# Altium footprint library IDC_100_2x3.PcbLib: 1 footprints
Each footprint in its own frame and in the unit in brackets; x right, y up, seen from the top. Pads: shape width x height; smd on the part's side, far side on the other; paste and mask are expansions set on the pad; w line width, h text height; cw(c..) or ccw(c..) is an arc to the next point about the centre after c.
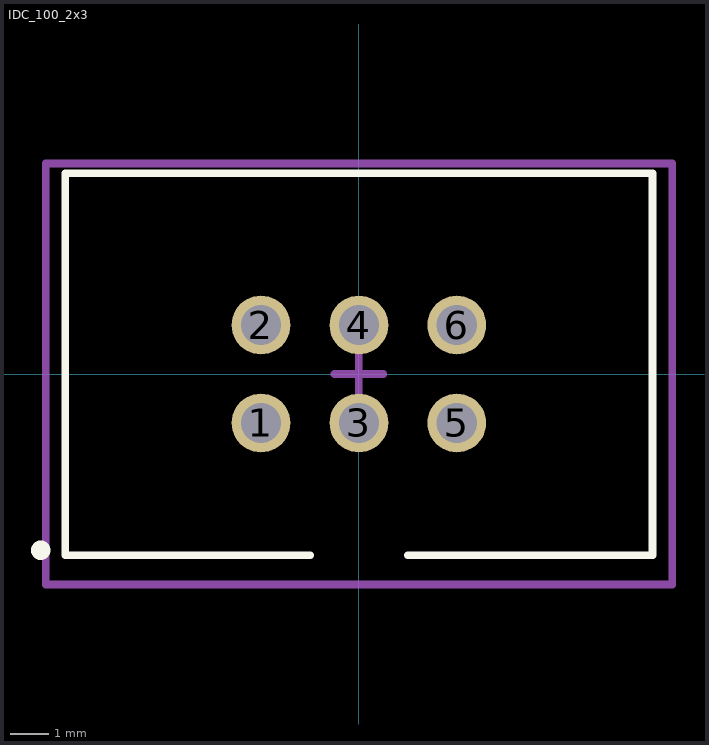
[diagram p0: the footprint, top view; thin cyan lines are the x and y axes]

## IDC_100_2x3 [mil]
pads (6):
  round 60 hole 41: 1(-100,-50) 2(-100,50) 3(0,-50) 4(0,50) 5(100,-50) 6(100,50)
Top Overlay:
  circle w10: c-325,-180 r5
  lines w7.87: -50,-185 -300,-185 -300,205 300,205 300,-185 50,-185
Mechanical 15:
  lines w7.87: -25,0 0,0 ; 0,-25 0,0 ; 0,25 0,0 ; 25,0 0,0 ; -320,-215 -320,215 320,215 320,-215 -320,-215
3D body "75869131lf.stp": height 367.56, standoff -119.44, extent -291.93,-175 291.93,189.96